# EAGLE library part BUF634P (library pro3E_neu)
BUFFER AMPLIFIER
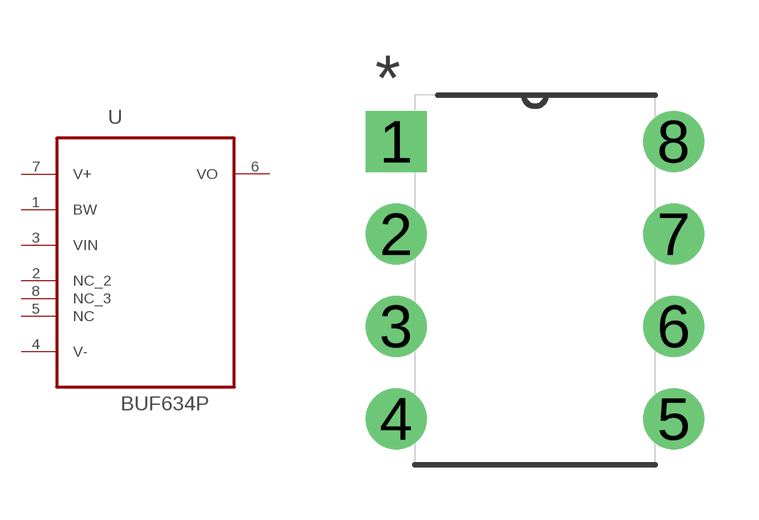
[diagram p3: symbol with the pads of DIP254P762X508-8; footprint DIP254P762X508-8]

Designator prefix U

## BUF634P (MPN: BUF634P; OC_FARNELL: 1470343; OC_NEWARK: 80K5714; PACKAGE: PDIP-8; SUPPLIER: Texas Instruments)  [DIP254P762X508-8]
1  BW  pas
2  NC_2  nc
3  VIN  in
4  V-  pwr
5  NC  nc
6  VO  out
7  V+  pwr
8  NC_3  nc

## Footprint DIP254P762X508-8 (pad centres in mm)
drill 1.118 square: 1 -7.62,7.62
drill 1.118: 2 -7.62,5.08; 3 -7.62,2.54; 4 -7.62,0; 5 0,0; 6 0,2.54; 7 0,5.08; 8 0,7.62